# Altium footprint library PCB_H_Bridge.PcbLib: 7 footprints
Each footprint in its own frame and in the unit in brackets; x right, y up, seen from the top. Pads: shape width x height; smd on the part's side, far side on the other; paste and mask are expansions set on the pad; w line width, h text height; cw(c..) or ccw(c..) is an arc to the next point about the centre after c.
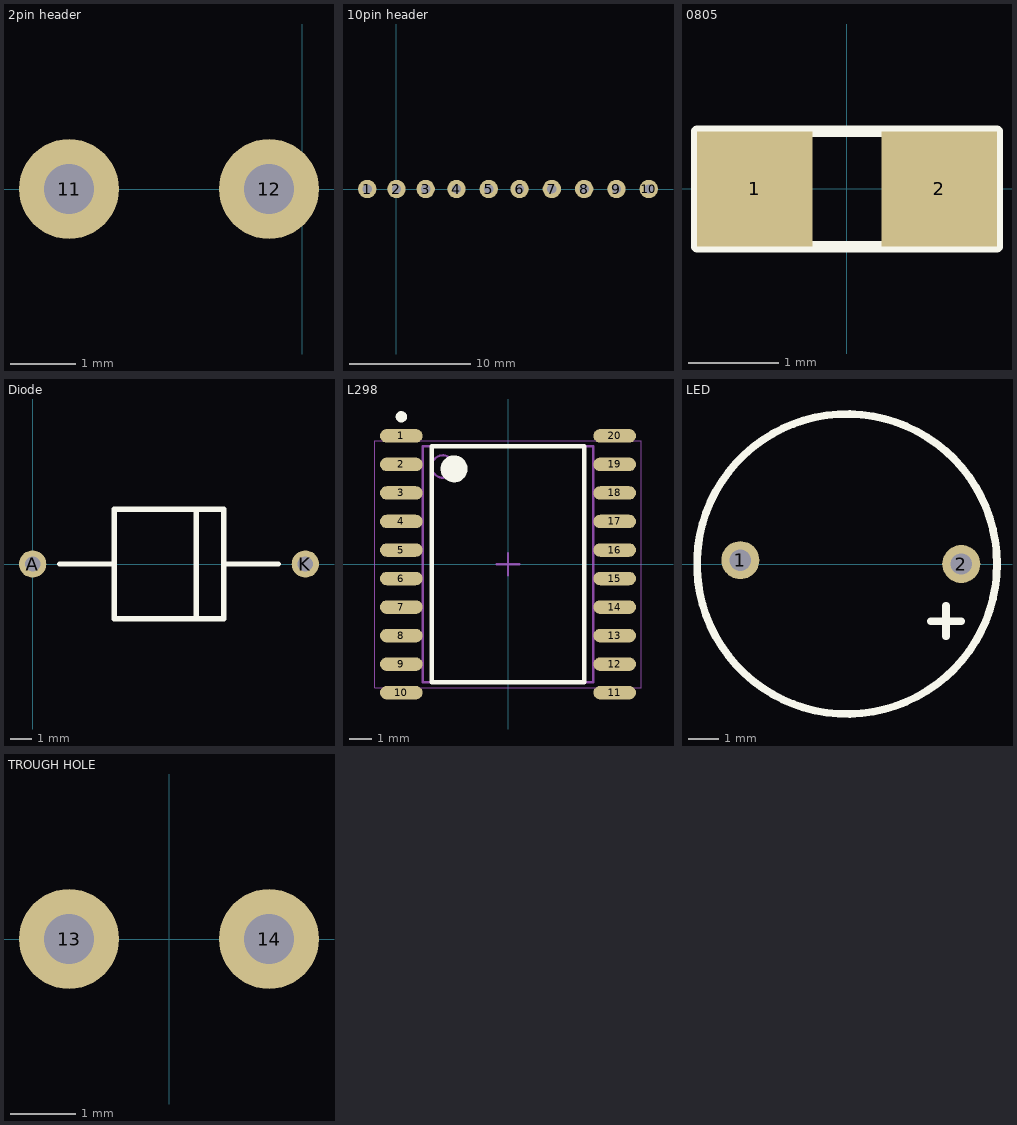
[diagram p0: the footprints below, top view; thin cyan lines are the x and y axes]

## 2pin header [mil]
pads (2):
  round 60 hole 30: 11(-140,0) 12(-20,0)

## 10pin header [mil]
pads (10):
  round 60 hole 30: 1(-95,0) 2(0,0) 3(95,0) 4(195,0) 5(300,0) 6(400,0) 7(505,0) 8(610,0) 9(715,0) 10(820,0)

## 0805 [mil]
pads (2):
  rect 50x50 smd: 1(-40,0) 2(40,0)
Top Overlay:
  lines w5: -65,-25 -65,0 -65,25 65,25 65,-25 -65,-25

## Diode [mil]
pads (2):
  round 50 hole 28: A(0,0) K(500,0)
Top Overlay:
  lines w10: 50,0 150,0 ; 300,-100 300,100 ; 350,0 450,0 ; 150,0 150,100 350,100 350,-100 150,-100 150,0

## L298 [mm] "SOP, 20-Leads, Body 10,30x7,50mm, Pitch 1,27mm, IPC Medium Density"
height 2.65
pads (20):
  oval 1.9x0.6 smd: 1(-4.75,5.715) 2(-4.75,4.445) 3(-4.75,3.175) 4(-4.75,1.905) 5(-4.75,0.635) 6(-4.75,-0.635) 7(-4.75,-1.905) 8(-4.75,-3.175) 9(-4.75,-4.445) 10(-4.75,-5.715) 11(4.75,-5.715) 12(4.75,-4.445) 13(4.75,-3.175) 14(4.75,-1.905) 15(4.75,-0.635) 16(4.75,0.635) 17(4.75,1.905) 18(4.75,3.175) 19(4.75,4.445) 20(4.75,5.715)
Top Overlay:
  circle w0.6: c-2.4,4.25 r0.3
  circle w0.25: c-4.75,6.565 r0.125
  lines w0.2: -3.4,-5.25 3.4,-5.25 3.4,5.25 -3.4,5.25 -3.4,-5.25
Mechanical 13:
  circle w0.1: c-2.9,4.35 r0.5
  lines w0.1: -3.8,-5.25 3.8,-5.25 3.8,5.25 -3.8,5.25 -3.8,-5.25
Mechanical 15:
  lines w0.05: -5.925,-5.5 5.925,-5.5 5.925,5.5 -5.925,5.5 -5.925,-5.5
  lines w0.1: -0.5,0 0.5,0 ; 0,-0.5 0,0.5
3D body: height 2.65, standoff 0.1, extent -3.8,-5.25 3.8,5.25

## LED [mil]
pads (2):
  round 50 hole 28: 1(110,5) 2(400,0)
Top Overlay:
  circle w10: c250,0 r196.85
  lines w10: 360,-75 400,-75 ; 380,-95 380,-55

## TROUGH HOLE [mil]
pads (2):
  round 60 hole 30: 13(-60,0) 14(60,0)